# EAGLE library part SE2580L (library schematic)
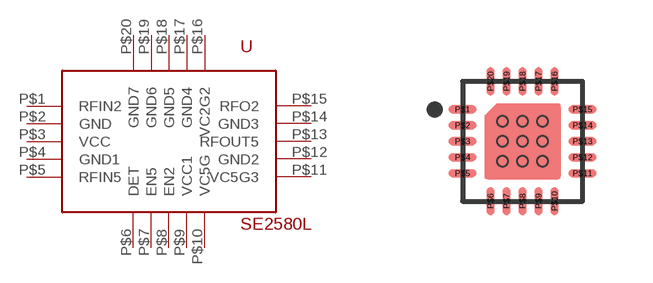
[diagram p11: symbol with the pads of SE2580L; footprint SE2580L]

Designator prefix -

## SE2580L  [SE2580L]
P$1  RFIN2
P$2  GND
P$3  VCC
P$4  GND1
P$5  RFIN5
P$6  DET
P$7  EN5
P$8  EN2
P$9  VCC1
P$10  VC5G
P$11  VC5G3
P$12  GND2
P$13  RFOUT5
P$14  GND3
P$15  RFO2
P$16  VC2G2
P$17  GND4
P$18  GND5
P$19  GND6
P$20  GND7

## Footprint SE2580L (pad centres in mm)
smd 0.7 x 0.2: P$1 -1.5,0.8; P$2 -1.5,0.4; P$3 -1.5,0; P$4 -1.5,-0.4; P$5 -1.5,-0.8; P$11 1.5,-0.8; P$12 1.5,-0.4; P$13 1.5,0; P$14 1.5,0.4; P$15 1.5,0.8
smd 0.2 x 0.7: P$6 -0.8,-1.5; P$7 -0.4,-1.5; P$8 0,-1.5; P$9 0.4,-1.5; P$10 0.8,-1.5; P$16 0.8,1.5; P$17 0.4,1.5; P$18 0,1.5; P$19 -0.4,1.5; P$20 -0.8,1.5
hole 0.254 at -0.5,0.5
hole 0.254 at 0,0.5
hole 0.254 at 0.5,0.5
hole 0.254 at 0.5,0
hole 0.254 at 0,0
hole 0.254 at -0.5,0
hole 0.254 at -0.5,-0.5
hole 0.254 at 0,-0.5
hole 0.254 at 0.5,-0.5